# Altium footprint library AMP Footprints.PcbLib: 903 footprints (part 9 of 58)
Each footprint in its own frame and in the unit in brackets; x right, y up, seen from the top. Pads: shape width x height; smd on the part's side, far side on the other; paste and mask are expansions set on the pad; w line width, h text height; cw(c..) or ccw(c..) is an arc to the next point about the centre after c.
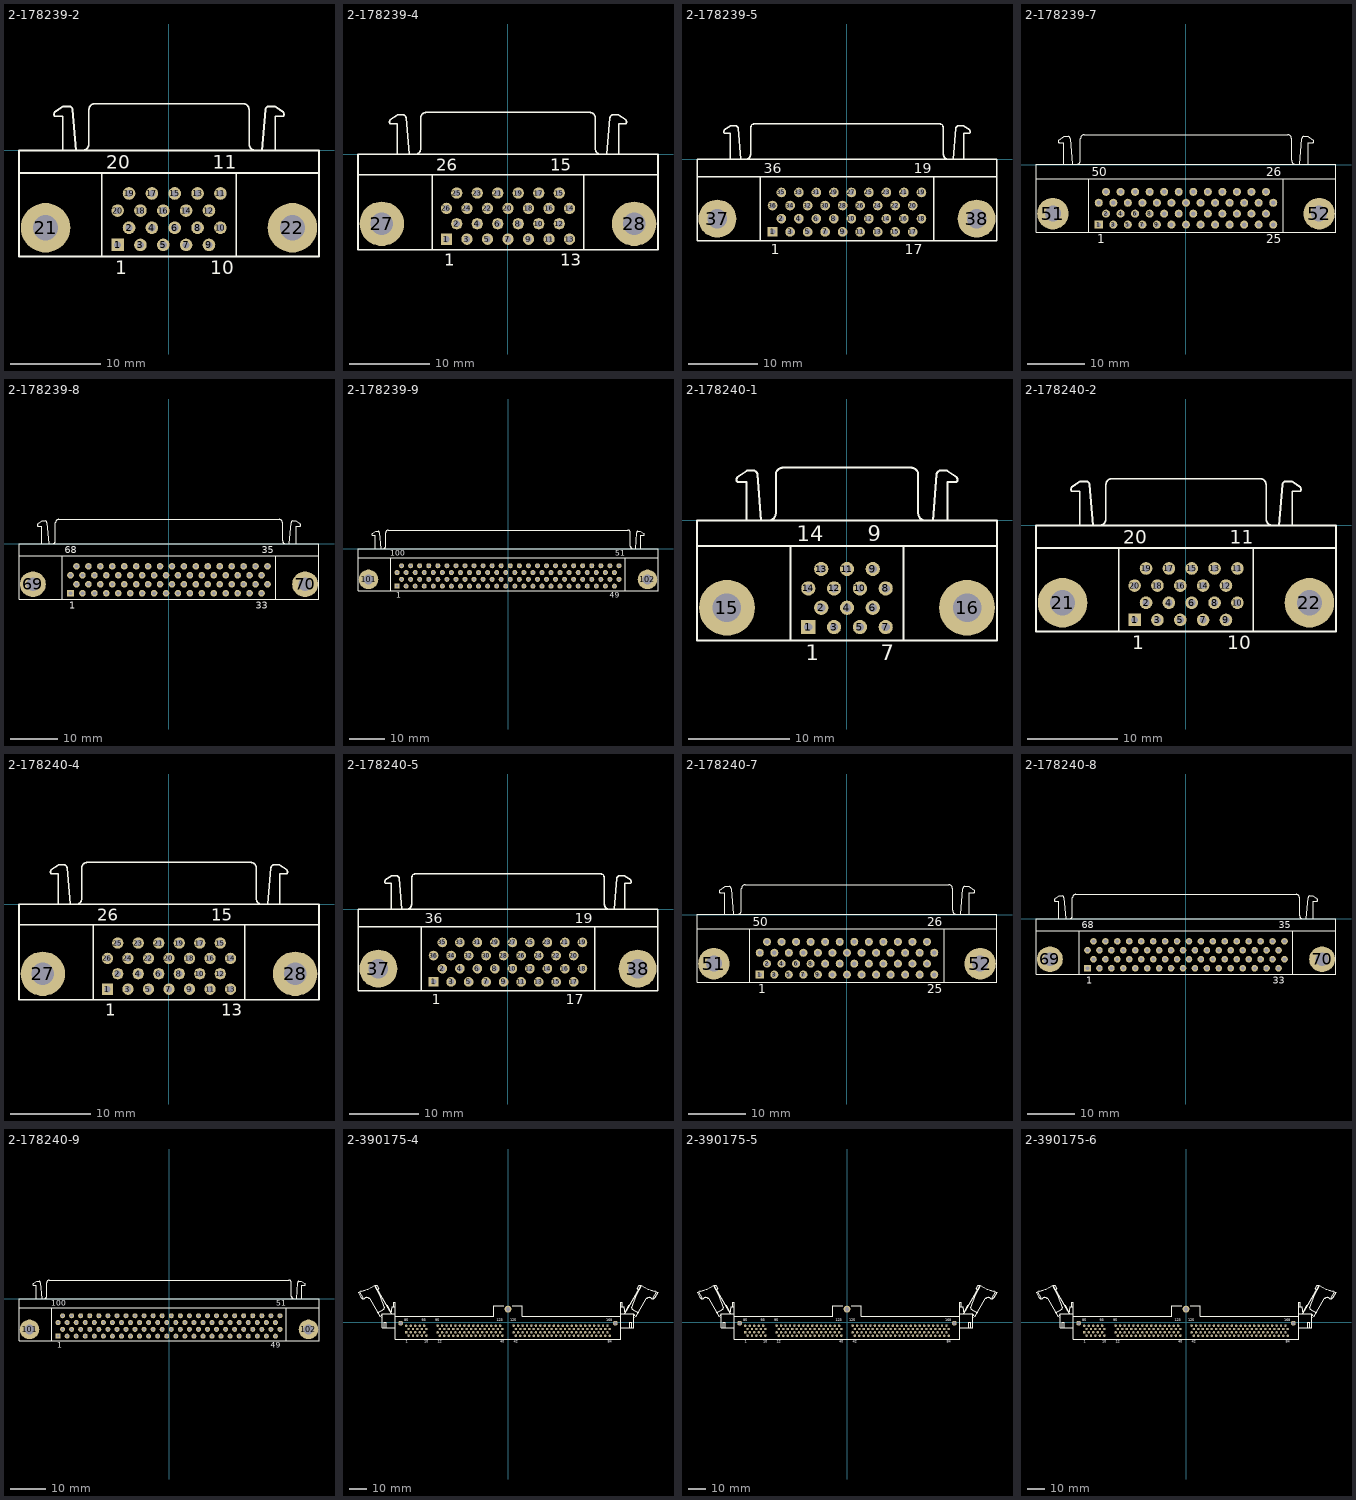
[diagram p8: the footprints below, top view; thin cyan lines are the x and y axes]

## 2-178239-2 [mm] "Connector; CHAMP Miniature Ribbon 050 Series II; 20 Position; Right Angle"
height 9.6
pads (22):
  rect 1.4x1.4 hole 0.8: 1(-5.715,-10.5)
  round 1.4 hole 0.8: 2(-4.445,-8.595) 3(-3.175,-10.5) 4(-1.905,-8.595) 5(-0.635,-10.5) 6(0.635,-8.595) 7(1.905,-10.5) 8(3.175,-8.595) 9(4.445,-10.5) 10(5.715,-8.595) 11(5.715,-4.785) 12(4.445,-6.69) 13(3.175,-4.785) 14(1.905,-6.69) 15(0.635,-4.785) 16(-0.635,-6.69) 17(-1.905,-4.785) 18(-3.175,-6.69) 19(-4.445,-4.785) 20(-5.715,-6.69)
  round 5.5 hole 2.8: 21(-13.725,-8.595) 22(13.725,-8.595)
Top Overlay:
  lines w0.2: -16.675,-2.5 16.675,-2.5 ; -12.69,4.27 -11.75,4.898 -11.028,4.898 cw(c-11.13,4.5) -10.72,4.5 ; -12.676,4.255 ccw(c-12.45,4.01) -12.7,3.79 -11.82,3.79 -11.82,0 ; -10.72,4.52 -10.35,0 ; -9.61,0.005 ccw(c-9.61,0.7) -8.915,0.7 -8.915,4.5 ; -8.91,4.505 cw(c-8.215,4.505) -8.215,5.2 8.215,5.2 cw(c8.215,4.505) 8.91,4.505 ; -7.475,-11.8 -7.475,-2.58 ; 7.475,-11.8 7.475,-2.5 ; 8.915,4.5 8.915,0.7 ccw(c9.61,0.7) 9.61,0.005 ; 10.35,0 10.72,4.52 ; 10.72,4.5 cw(c11.13,4.5) 11.028,4.898 11.75,4.898 12.69,4.27 ; 11.82,0 11.82,3.79 12.7,3.79 ccw(c12.45,4.01) 12.676,4.255 ; -16.675,-11.8 16.675,-11.8 16.675,0 -16.675,0 -16.675,-11.8
  text "11" at 4.84,-2.025 h1.5
  text "20" at -6.965,-2.025 h1.5
  text "10" at 4.59,-13.775 h1.5
  text "1" at -5.965,-13.775 h1.5

## 2-178239-4 [mm] "Connector; CHAMP Miniature Ribbon 050 Series II; 26 Position; Right Angle"
height 9.6
pads (28):
  rect 1.4x1.4 hole 0.8: 1(-7.62,-10.5)
  round 1.4 hole 0.8: 2(-6.35,-8.595) 3(-5.08,-10.5) 4(-3.81,-8.595) 5(-2.54,-10.5) 6(-1.27,-8.595) 7(0,-10.5) 8(1.27,-8.595) 9(2.54,-10.5) 10(3.81,-8.595) 11(5.08,-10.5) 12(6.35,-8.595) 13(7.62,-10.5) 14(7.62,-6.69) 15(6.35,-4.785) 16(5.08,-6.69) 17(3.81,-4.785) 18(2.54,-6.69) 19(1.27,-4.785) 20(0,-6.69) 21(-1.27,-4.785) 22(-2.54,-6.69) 23(-3.81,-4.785) 24(-5.08,-6.69) 25(-6.35,-4.785) 26(-7.62,-6.69)
  round 5.5 hole 2.8: 27(-15.63,-8.595) 28(15.63,-8.595)
Top Overlay:
  lines w0.2: -18.58,-2.5 18.58,-2.5 ; -14.595,4.27 -13.655,4.898 -12.933,4.898 cw(c-13.035,4.5) -12.625,4.5 ; -14.581,4.255 ccw(c-14.355,4.01) -14.605,3.79 -13.725,3.79 -13.725,0 ; -12.625,4.52 -12.255,0 ; -11.515,0.005 ccw(c-11.515,0.7) -10.82,0.7 -10.82,4.5 ; -10.815,4.505 cw(c-10.12,4.505) -10.12,5.2 10.12,5.2 cw(c10.12,4.505) 10.815,4.505 ; -9.38,-11.8 -9.38,-2.58 ; 9.38,-11.8 9.38,-2.5 ; 10.82,4.5 10.82,0.7 ccw(c11.515,0.7) 11.515,0.005 ; 12.255,0 12.625,4.52 ; 12.625,4.5 cw(c13.035,4.5) 12.933,4.898 13.655,4.898 14.595,4.27 ; 13.725,0 13.725,3.79 14.605,3.79 ccw(c14.355,4.01) 14.581,4.255 ; -18.58,-11.8 -18.58,0 18.58,0 18.58,-11.8 -18.58,-11.8
  text "13" at 6.495,-13.775 h1.5
  text "26" at -8.87,-2.025 h1.5
  text "15" at 5.225,-2.025 h1.5
  text "1" at -7.87,-13.775 h1.5

## 2-178239-5 [mm] "Connector; CHAMP Miniature Ribbon 050 Series II; 36 Position; Right Angle"
height 9.6
pads (38):
  rect 1.4x1.4 hole 0.8: 1(-10.795,-10.5)
  round 1.4 hole 0.8: 2(-9.525,-8.595) 3(-8.255,-10.5) 4(-6.985,-8.595) 5(-5.715,-10.5) 6(-4.445,-8.595) 7(-3.175,-10.5) 8(-1.905,-8.595) 9(-0.635,-10.5) 10(0.635,-8.595) 11(1.905,-10.5) 12(3.175,-8.595) 13(4.445,-10.5) 14(5.715,-8.595) 15(6.985,-10.5) 16(8.255,-8.595) 17(9.525,-10.5) 18(10.795,-8.595) 19(10.795,-4.785) 20(9.525,-6.69) 21(8.255,-4.785) 22(6.985,-6.69) 23(5.715,-4.785) 24(4.445,-6.69) 25(3.175,-4.785) 26(1.905,-6.69) 27(0.635,-4.785) 28(-0.635,-6.69) 29(-1.905,-4.785) 30(-3.175,-6.69) 31(-4.445,-4.785) 32(-5.715,-6.69) 33(-6.985,-4.785) 34(-8.255,-6.69) 35(-9.525,-4.785) 36(-10.795,-6.69)
  round 5.5 hole 2.8: 37(-18.805,-8.595) 38(18.805,-8.595)
Top Overlay:
  lines w0.2: -21.755,-2.5 21.755,-2.5 ; -17.77,4.27 -16.83,4.898 -16.108,4.898 cw(c-16.21,4.5) -15.8,4.5 ; -17.756,4.255 ccw(c-17.53,4.01) -17.78,3.79 -16.9,3.79 -16.9,0 ; -15.8,4.52 -15.43,0 ; -14.69,0.005 ccw(c-14.69,0.7) -13.995,0.7 -13.995,4.5 ; -13.99,4.505 cw(c-13.295,4.505) -13.295,5.2 13.295,5.2 cw(c13.295,4.505) 13.99,4.505 ; -12.555,-11.8 -12.555,-2.58 ; 12.555,-11.8 12.555,-2.5 ; 13.995,4.5 13.995,0.7 ccw(c14.69,0.7) 14.69,0.005 ; 15.43,0 15.8,4.52 ; 15.8,4.5 cw(c16.21,4.5) 16.108,4.898 16.83,4.898 17.77,4.27 ; 16.9,0 16.9,3.79 17.78,3.79 ccw(c17.53,4.01) 17.756,4.255 ; -21.755,-11.8 21.755,-11.8 21.755,0 -21.755,0 -21.755,-11.8
  text "19" at 9.67,-2.025 h1.5
  text "36" at -12.045,-2.025 h1.5
  text "17" at 8.4,-13.775 h1.5
  text "1" at -11.045,-13.775 h1.5

## 2-178239-7 [mm] "Connector; CHAMP Miniature Ribbon 050 Series II; 50 Position; Right Angle"
height 9.6
pads (52):
  rect 1.4x1.4 hole 0.8: 1(-15.24,-10.477)
  round 1.4 hole 0.8: 2(-13.97,-8.572) 3(-12.7,-10.477) 4(-11.43,-8.572) 5(-10.16,-10.477) 6(-8.89,-8.572) 7(-7.62,-10.477) 8(-6.35,-8.572) 9(-5.08,-10.477) 10(-3.81,-8.572) 11(-2.54,-10.477) 12(-1.27,-8.572) 13(0,-10.477) 14(1.27,-8.572) 15(2.54,-10.477) 16(3.81,-8.572) 17(5.08,-10.477) 18(6.35,-8.572) 19(7.62,-10.477) 20(8.89,-8.572) 21(10.16,-10.477) 22(11.43,-8.572) 23(12.7,-10.477) 24(13.97,-8.572) 25(15.24,-10.477) 26(15.24,-6.667) 27(13.97,-4.763) 28(12.7,-6.667) 29(11.43,-4.763) 30(10.16,-6.667) 31(8.89,-4.763) 32(7.62,-6.667) 33(6.35,-4.763) 34(5.08,-6.667) 35(3.81,-4.763) 36(2.54,-6.667) 37(1.27,-4.763) 38(0,-6.667) 39(-1.27,-4.763) 40(-2.54,-6.667) 41(-3.81,-4.763) 42(-5.08,-6.667) 43(-6.35,-4.763) 44(-7.62,-6.667) 45(-8.89,-4.763) 46(-10.16,-6.667) 47(-11.43,-4.763) 48(-12.7,-6.667) 49(-13.97,-4.763) 50(-15.24,-6.667)
  round 5.5 hole 2.8: 51(-23.25,-8.572) 52(23.25,-8.572)
Top Overlay:
  lines w0.2: -26.2,-2.478 26.2,-2.478 ; -22.215,4.292 -21.275,4.92 -20.553,4.92 cw(c-20.655,4.523) -20.245,4.523 ; -22.201,4.277 ccw(c-21.975,4.032) -22.225,3.812 -21.345,3.813 -21.345,0.022 ; -20.245,4.543 -19.875,0.022 ; -19.135,0.028 ccw(c-19.135,0.723) -18.44,0.723 -18.44,4.523 ; -18.435,4.527 cw(c-17.74,4.527) -17.74,5.222 17.74,5.222 cw(c17.74,4.527) 18.435,4.527 ; -17,-11.777 -17,-2.558 ; 17,-11.777 17,-2.478 ; 18.44,4.523 18.44,0.723 ccw(c19.135,0.723) 19.135,0.028 ; 19.875,0.022 20.245,4.543 ; 20.245,4.523 cw(c20.655,4.523) 20.553,4.92 21.275,4.92 22.215,4.292 ; 21.345,0.022 21.345,3.812 22.225,3.813 ccw(c21.975,4.032) 22.201,4.277 ; -26.2,-11.777 -26.2,0.022 26.2,0.022 26.2,-11.777 -26.2,-11.777
  text "1" at -15.49,-13.752 h1.5
  text "25" at 13.99,-13.752 h1.5
  text "50" at -16.49,-2.003 h1.5
  text "26" at 13.99,-2.003 h1.5

## 2-178239-8 [mm] "Connector; CHAMP Miniature Ribbon 050 Series II; 68 Position; Right Angle"
height 9.6
pads (70):
  rect 1.4x1.4 hole 0.8: 1(-20.955,-10.5)
  round 1.4 hole 0.8: 2(-19.685,-8.595) 3(-18.415,-10.5) 4(-17.145,-8.595) 5(-15.875,-10.5) 6(-14.605,-8.595) 7(-13.335,-10.5) 8(-12.065,-8.595) 9(-10.795,-10.5) 10(-9.525,-8.595) 11(-8.255,-10.5) 12(-6.985,-8.595) 13(-5.715,-10.5) 14(-4.445,-8.595) 15(-3.175,-10.5) 16(-1.905,-8.595) 17(-0.635,-10.5) 18(0.635,-8.595) 19(1.905,-10.5) 20(3.175,-8.595) 21(4.445,-10.5) 22(5.715,-8.595) 23(6.985,-10.5) 24(8.255,-8.595) 25(9.525,-10.5) 26(10.795,-8.595) 27(12.065,-10.5) 28(13.335,-8.595) 29(14.605,-10.5) 30(15.875,-8.595) 31(17.145,-10.5) 32(18.415,-8.595) 33(19.685,-10.5) 34(20.955,-8.595) 35(20.955,-4.785) 36(19.685,-6.69) 37(18.415,-4.785) 38(17.145,-6.69) 39(15.875,-4.785) 40(14.605,-6.69) 41(13.335,-4.785) 42(12.065,-6.69) 43(10.795,-4.785) 44(9.525,-6.69) 45(8.255,-4.785) 46(6.985,-6.69) 47(5.715,-4.785) 48(4.445,-6.69) 49(3.175,-4.785) 50(1.905,-6.69) 51(0.635,-4.785) 52(-0.635,-6.69) 53(-1.905,-4.785) 54(-3.175,-6.69) 55(-4.445,-4.785) 56(-5.715,-6.69) 57(-6.985,-4.785) 58(-8.255,-6.69) 59(-9.525,-4.785) 60(-10.795,-6.69) 61(-12.065,-4.785) 62(-13.335,-6.69) 63(-14.605,-4.785) 64(-15.875,-6.69) 65(-17.145,-4.785) 66(-18.415,-6.69) 67(-19.685,-4.785) 68(-20.955,-6.69)
  round 5.5 hole 2.8: 69(-28.965,-8.595) 70(28.965,-8.595)
Top Overlay:
  lines w0.2: -31.915,-2.5 31.915,-2.5 ; -27.93,4.27 -26.99,4.898 -26.268,4.898 cw(c-26.37,4.5) -25.96,4.5 ; -27.916,4.255 ccw(c-27.69,4.01) -27.94,3.79 -27.06,3.79 -27.06,0 ; -25.96,4.52 -25.59,0 ; -24.85,0.005 ccw(c-24.85,0.7) -24.155,0.7 -24.155,4.5 ; -24.15,4.505 cw(c-23.455,4.505) -23.455,5.2 23.455,5.2 cw(c23.455,4.505) 24.15,4.505 ; -22.715,-11.8 -22.715,-2.58 ; 22.715,-11.8 22.715,-2.5 ; 24.155,4.5 24.155,0.7 ccw(c24.85,0.7) 24.85,0.005 ; 25.59,0 25.96,4.52 ; 25.96,4.5 cw(c26.37,4.5) 26.268,4.898 26.99,4.898 27.93,4.27 ; 27.06,0 27.06,3.79 27.94,3.79 ccw(c27.69,4.01) 27.916,4.255 ; -31.915,-11.8 -31.915,0 31.915,0 31.915,-11.8 -31.915,-11.8
  text "35" at 19.705,-2.025 h1.5
  text "68" at -22.205,-2.025 h1.5
  text "33" at 18.435,-13.775 h1.5
  text "1" at -21.205,-13.775 h1.5

## 2-178239-9 [mm] "Connector; CHAMP Miniature Ribbon 050 Series II; 100 Position; Right Angle"
height 9.6
pads (102):
  rect 1.4x1.4 hole 0.8: 1(-31.115,-10.5)
  round 1.4 hole 0.8: 2(-29.845,-8.595) 3(-28.575,-10.5) 4(-27.305,-8.595) 5(-26.035,-10.5) 6(-24.765,-8.595) 7(-23.495,-10.5) 8(-22.225,-8.595) 9(-20.955,-10.5) 10(-19.685,-8.595) 11(-18.415,-10.5) 12(-17.145,-8.595) 13(-15.875,-10.5) 14(-14.605,-8.595) 15(-13.335,-10.5) 16(-12.065,-8.595) 17(-10.795,-10.5) 18(-9.525,-8.595) 19(-8.255,-10.5) 20(-6.985,-8.595) 21(-5.715,-10.5) 22(-4.445,-8.595) 23(-3.175,-10.5) 24(-1.905,-8.595) 25(-0.635,-10.5) 26(0.635,-8.595) 27(1.905,-10.5) 28(3.175,-8.595) 29(4.445,-10.5) 30(5.715,-8.595) 31(6.985,-10.5) 32(8.255,-8.595) 33(9.525,-10.5) 34(10.795,-8.595) 35(12.065,-10.5) 36(13.335,-8.595) 37(14.605,-10.5) 38(15.875,-8.595) 39(17.145,-10.5) 40(18.415,-8.595) 41(19.685,-10.5) 42(20.955,-8.595) 43(22.225,-10.5) 44(23.495,-8.595) 45(24.765,-10.5) 46(26.035,-8.595) 47(27.305,-10.5) 48(28.575,-8.595) 49(29.845,-10.5) 50(31.115,-8.595) 51(31.115,-4.785) 52(29.845,-6.69) 53(28.575,-4.785) 54(27.305,-6.69) 55(26.035,-4.785) 56(24.765,-6.69) 57(23.495,-4.785) 58(22.225,-6.69) 59(20.955,-4.785) 60(19.685,-6.69) 61(18.415,-4.785) 62(17.145,-6.69) 63(15.875,-4.785) 64(14.605,-6.69) 65(13.335,-4.785) 66(12.065,-6.69) 67(10.795,-4.785) 68(9.525,-6.69) 69(8.255,-4.785) 70(6.985,-6.69) 71(5.715,-4.785) 72(4.445,-6.69) 73(3.175,-4.785) 74(1.905,-6.69) 75(0.635,-4.785) 76(-0.635,-6.69) 77(-1.905,-4.785) 78(-3.175,-6.69) 79(-4.445,-4.785) 80(-5.715,-6.69) 81(-6.985,-4.785) 82(-8.255,-6.69) 83(-9.525,-4.785) 84(-10.795,-6.69) 85(-12.065,-4.785) 86(-13.335,-6.69) 87(-14.605,-4.785) 88(-15.875,-6.69) 89(-17.145,-4.785) 90(-18.415,-6.69) 91(-19.685,-4.785) 92(-20.955,-6.69) 93(-22.225,-4.785) 94(-23.495,-6.69) 95(-24.765,-4.785) 96(-26.035,-6.69) 97(-27.305,-4.785) 98(-28.575,-6.69) 99(-29.845,-4.785) 100(-31.115,-6.69)
  round 5.5 hole 2.8: 101(-39.125,-8.595) 102(39.125,-8.595)
Top Overlay:
  lines w0.2: -42.075,-2.5 42.075,-2.5 ; -38.09,4.27 -37.15,4.898 -36.428,4.898 cw(c-36.53,4.5) -36.12,4.5 ; -38.076,4.255 ccw(c-37.85,4.01) -38.1,3.79 -37.22,3.79 -37.22,0 ; -36.12,4.52 -35.75,0 ; -35.01,0.005 ccw(c-35.01,0.7) -34.315,0.7 -34.315,4.5 ; -34.31,4.505 cw(c-33.615,4.505) -33.615,5.2 33.615,5.2 ; -32.875,-11.8 -32.875,-2.58 ; 32.875,-11.8 32.875,-2.5 ; 33.63,5.2 cw(c33.63,4.505) 34.325,4.505 ; 34.33,4.5 34.33,0.7 ccw(c35.025,0.7) 35.025,0.005 ; 35.765,0 36.135,4.52 ; 36.135,4.5 cw(c36.545,4.5) 36.443,4.898 37.165,4.898 38.105,4.27 ; 37.235,0 37.235,3.79 38.115,3.79 ccw(c37.865,4.01) 38.091,4.255 ; -42.075,-11.8 42.075,-11.8 42.075,0 -42.075,0 -42.075,-11.8
  text "51" at 30.115,-2.025 h1.5
  text "100" at -32.99,-2.025 h1.5
  text "49" at 28.595,-13.775 h1.5
  text "1" at -31.365,-13.775 h1.5

## 2-178240-1 [mm] "Connector; CHAMP Miniature Ribbon 050 Series II; 14 Position; Right Angle"
height 9.6
pads (16):
  rect 1.4x1.4 hole 0.8: 1(-3.81,-10.5)
  round 1.4 hole 0.8: 2(-2.54,-8.595) 3(-1.27,-10.5) 4(0,-8.595) 5(1.27,-10.5) 6(2.54,-8.595) 7(3.81,-10.5) 8(3.81,-6.69) 9(2.54,-4.785) 10(1.27,-6.69) 11(0,-4.785) 12(-1.27,-6.69) 13(-2.54,-4.785) 14(-3.81,-6.69)
  round 5.5 hole 2.8: 15(-11.82,-8.595) 16(11.82,-8.595)
Top Overlay:
  lines w0.2: -14.77,-2.5 14.77,-2.5 ; -10.785,4.27 -9.845,4.898 -9.123,4.898 cw(c-9.225,4.5) -8.815,4.5 ; -10.771,4.255 ccw(c-10.545,4.01) -10.795,3.79 -9.915,3.79 -9.915,0 ; -8.815,4.52 -8.445,0 ; -7.705,0.005 ccw(c-7.705,0.7) -7.01,0.7 -7.01,4.5 ; -7.005,4.505 cw(c-6.31,4.505) -6.31,5.2 6.31,5.2 cw(c6.31,4.505) 7.005,4.505 ; -5.57,-11.8 -5.57,-2.58 ; 5.57,-11.8 5.57,-2.5 ; 7.01,4.5 7.01,0.7 ccw(c7.705,0.7) 7.705,0.005 ; 8.445,0 8.815,4.52 ; 8.815,4.5 cw(c9.225,4.5) 9.123,4.898 9.845,4.898 10.785,4.27 ; 9.915,0 9.915,3.79 10.795,3.79 ccw(c10.545,4.01) 10.771,4.255 ; -14.77,-11.8 14.77,-11.8 14.77,0 -14.77,0 -14.77,-11.8
  text "9" at 2.04,-2.025 h1.5
  text "14" at -4.935,-2.025 h1.5
  text "1" at -4.06,-13.775 h1.5
  text "7" at 3.31,-13.775 h1.5

## 2-178240-2 [mm] "Connector; CHAMP Miniature Ribbon 050 Series II; 20 Position; Right Angle"
height 9.6
pads (22):
  rect 1.4x1.4 hole 0.8: 1(-5.715,-10.5)
  round 1.4 hole 0.8: 2(-4.445,-8.595) 3(-3.175,-10.5) 4(-1.905,-8.595) 5(-0.635,-10.5) 6(0.635,-8.595) 7(1.905,-10.5) 8(3.175,-8.595) 9(4.445,-10.5) 10(5.715,-8.595) 11(5.715,-4.785) 12(4.445,-6.69) 13(3.175,-4.785) 14(1.905,-6.69) 15(0.635,-4.785) 16(-0.635,-6.69) 17(-1.905,-4.785) 18(-3.175,-6.69) 19(-4.445,-4.785) 20(-5.715,-6.69)
  round 5.5 hole 2.8: 21(-13.725,-8.595) 22(13.725,-8.595)
Top Overlay:
  lines w0.2: -16.675,-2.5 16.675,-2.5 ; -12.69,4.27 -11.75,4.898 -11.028,4.898 cw(c-11.13,4.5) -10.72,4.5 ; -12.676,4.255 ccw(c-12.45,4.01) -12.7,3.79 -11.82,3.79 -11.82,0 ; -10.72,4.52 -10.35,0 ; -9.61,0.005 ccw(c-9.61,0.7) -8.915,0.7 -8.915,4.5 ; -8.91,4.505 cw(c-8.215,4.505) -8.215,5.2 8.215,5.2 cw(c8.215,4.505) 8.91,4.505 ; -7.475,-11.8 -7.475,-2.58 ; 7.475,-11.8 7.475,-2.5 ; 8.915,4.5 8.915,0.7 ccw(c9.61,0.7) 9.61,0.005 ; 10.35,0 10.72,4.52 ; 10.72,4.5 cw(c11.13,4.5) 11.028,4.898 11.75,4.898 12.69,4.27 ; 11.82,0 11.82,3.79 12.7,3.79 ccw(c12.45,4.01) 12.676,4.255 ; -16.675,-11.8 16.675,-11.8 16.675,0 -16.675,0 -16.675,-11.8
  text "11" at 4.84,-2.025 h1.5
  text "20" at -6.965,-2.025 h1.5
  text "10" at 4.59,-13.775 h1.5
  text "1" at -5.965,-13.775 h1.5

## 2-178240-4 [mm] "Connector; CHAMP Miniature Ribbon 050 Series II; 26 Position; Right Angle"
height 9.6
pads (28):
  rect 1.4x1.4 hole 0.8: 1(-7.62,-10.5)
  round 1.4 hole 0.8: 2(-6.35,-8.595) 3(-5.08,-10.5) 4(-3.81,-8.595) 5(-2.54,-10.5) 6(-1.27,-8.595) 7(0,-10.5) 8(1.27,-8.595) 9(2.54,-10.5) 10(3.81,-8.595) 11(5.08,-10.5) 12(6.35,-8.595) 13(7.62,-10.5) 14(7.62,-6.69) 15(6.35,-4.785) 16(5.08,-6.69) 17(3.81,-4.785) 18(2.54,-6.69) 19(1.27,-4.785) 20(0,-6.69) 21(-1.27,-4.785) 22(-2.54,-6.69) 23(-3.81,-4.785) 24(-5.08,-6.69) 25(-6.35,-4.785) 26(-7.62,-6.69)
  round 5.5 hole 2.8: 27(-15.63,-8.595) 28(15.63,-8.595)
Top Overlay:
  lines w0.2: -18.58,-2.5 18.58,-2.5 ; -14.595,4.27 -13.655,4.898 -12.933,4.898 cw(c-13.035,4.5) -12.625,4.5 ; -14.581,4.255 ccw(c-14.355,4.01) -14.605,3.79 -13.725,3.79 -13.725,0 ; -12.625,4.52 -12.255,0 ; -11.515,0.005 ccw(c-11.515,0.7) -10.82,0.7 -10.82,4.5 ; -10.815,4.505 cw(c-10.12,4.505) -10.12,5.2 10.12,5.2 cw(c10.12,4.505) 10.815,4.505 ; -9.38,-11.8 -9.38,-2.58 ; 9.38,-11.8 9.38,-2.5 ; 10.82,4.5 10.82,0.7 ccw(c11.515,0.7) 11.515,0.005 ; 12.255,0 12.625,4.52 ; 12.625,4.5 cw(c13.035,4.5) 12.933,4.898 13.655,4.898 14.595,4.27 ; 13.725,0 13.725,3.79 14.605,3.79 ccw(c14.355,4.01) 14.581,4.255 ; -18.58,-11.8 -18.58,0 18.58,0 18.58,-11.8 -18.58,-11.8
  text "13" at 6.495,-13.775 h1.5
  text "26" at -8.87,-2.025 h1.5
  text "15" at 5.225,-2.025 h1.5
  text "1" at -7.87,-13.775 h1.5

## 2-178240-5 [mm] "Connector; CHAMP Miniature Ribbon 050 Series II; 36 Position; Right Angle"
height 9.6
pads (38):
  rect 1.4x1.4 hole 0.8: 1(-10.795,-10.5)
  round 1.4 hole 0.8: 2(-9.525,-8.595) 3(-8.255,-10.5) 4(-6.985,-8.595) 5(-5.715,-10.5) 6(-4.445,-8.595) 7(-3.175,-10.5) 8(-1.905,-8.595) 9(-0.635,-10.5) 10(0.635,-8.595) 11(1.905,-10.5) 12(3.175,-8.595) 13(4.445,-10.5) 14(5.715,-8.595) 15(6.985,-10.5) 16(8.255,-8.595) 17(9.525,-10.5) 18(10.795,-8.595) 19(10.795,-4.785) 20(9.525,-6.69) 21(8.255,-4.785) 22(6.985,-6.69) 23(5.715,-4.785) 24(4.445,-6.69) 25(3.175,-4.785) 26(1.905,-6.69) 27(0.635,-4.785) 28(-0.635,-6.69) 29(-1.905,-4.785) 30(-3.175,-6.69) 31(-4.445,-4.785) 32(-5.715,-6.69) 33(-6.985,-4.785) 34(-8.255,-6.69) 35(-9.525,-4.785) 36(-10.795,-6.69)
  round 5.5 hole 2.8: 37(-18.805,-8.595) 38(18.805,-8.595)
Top Overlay:
  lines w0.2: -21.755,-2.5 21.755,-2.5 ; -17.77,4.27 -16.83,4.898 -16.108,4.898 cw(c-16.21,4.5) -15.8,4.5 ; -17.756,4.255 ccw(c-17.53,4.01) -17.78,3.79 -16.9,3.79 -16.9,0 ; -15.8,4.52 -15.43,0 ; -14.69,0.005 ccw(c-14.69,0.7) -13.995,0.7 -13.995,4.5 ; -13.99,4.505 cw(c-13.295,4.505) -13.295,5.2 13.295,5.2 cw(c13.295,4.505) 13.99,4.505 ; -12.555,-11.8 -12.555,-2.58 ; 12.555,-11.8 12.555,-2.5 ; 13.995,4.5 13.995,0.7 ccw(c14.69,0.7) 14.69,0.005 ; 15.43,0 15.8,4.52 ; 15.8,4.5 cw(c16.21,4.5) 16.108,4.898 16.83,4.898 17.77,4.27 ; 16.9,0 16.9,3.79 17.78,3.79 ccw(c17.53,4.01) 17.756,4.255 ; -21.755,-11.8 21.755,-11.8 21.755,0 -21.755,0 -21.755,-11.8
  text "19" at 9.67,-2.025 h1.5
  text "36" at -12.045,-2.025 h1.5
  text "17" at 8.4,-13.775 h1.5
  text "1" at -11.045,-13.775 h1.5

## 2-178240-7 [mm] "Connector; CHAMP Miniature Ribbon 050 Series II; 50 Position; Right Angle"
height 9.6
pads (52):
  rect 1.4x1.4 hole 0.8: 1(-15.24,-10.477)
  round 1.4 hole 0.8: 2(-13.97,-8.572) 3(-12.7,-10.477) 4(-11.43,-8.572) 5(-10.16,-10.477) 6(-8.89,-8.572) 7(-7.62,-10.477) 8(-6.35,-8.572) 9(-5.08,-10.477) 10(-3.81,-8.572) 11(-2.54,-10.477) 12(-1.27,-8.572) 13(0,-10.477) 14(1.27,-8.572) 15(2.54,-10.477) 16(3.81,-8.572) 17(5.08,-10.477) 18(6.35,-8.572) 19(7.62,-10.477) 20(8.89,-8.572) 21(10.16,-10.477) 22(11.43,-8.572) 23(12.7,-10.477) 24(13.97,-8.572) 25(15.24,-10.477) 26(15.24,-6.667) 27(13.97,-4.763) 28(12.7,-6.667) 29(11.43,-4.763) 30(10.16,-6.667) 31(8.89,-4.763) 32(7.62,-6.667) 33(6.35,-4.763) 34(5.08,-6.667) 35(3.81,-4.763) 36(2.54,-6.667) 37(1.27,-4.763) 38(0,-6.667) 39(-1.27,-4.763) 40(-2.54,-6.667) 41(-3.81,-4.763) 42(-5.08,-6.667) 43(-6.35,-4.763) 44(-7.62,-6.667) 45(-8.89,-4.763) 46(-10.16,-6.667) 47(-11.43,-4.763) 48(-12.7,-6.667) 49(-13.97,-4.763) 50(-15.24,-6.667)
  round 5.5 hole 2.8: 51(-23.25,-8.572) 52(23.25,-8.572)
Top Overlay:
  lines w0.2: -26.2,-2.478 26.2,-2.478 ; -22.215,4.292 -21.275,4.92 -20.553,4.92 cw(c-20.655,4.523) -20.245,4.523 ; -22.201,4.277 ccw(c-21.975,4.032) -22.225,3.812 -21.345,3.813 -21.345,0.022 ; -20.245,4.543 -19.875,0.022 ; -19.135,0.028 ccw(c-19.135,0.723) -18.44,0.723 -18.44,4.523 ; -18.435,4.527 cw(c-17.74,4.527) -17.74,5.222 17.74,5.222 cw(c17.74,4.527) 18.435,4.527 ; -17,-11.777 -17,-2.558 ; 17,-11.777 17,-2.478 ; 18.44,4.523 18.44,0.723 ccw(c19.135,0.723) 19.135,0.028 ; 19.875,0.022 20.245,4.543 ; 20.245,4.523 cw(c20.655,4.523) 20.553,4.92 21.275,4.92 22.215,4.292 ; 21.345,0.022 21.345,3.812 22.225,3.813 ccw(c21.975,4.032) 22.201,4.277 ; -26.2,-11.777 -26.2,0.022 26.2,0.022 26.2,-11.777 -26.2,-11.777
  text "1" at -15.49,-13.752 h1.5
  text "25" at 13.99,-13.752 h1.5
  text "50" at -16.49,-2.003 h1.5
  text "26" at 13.99,-2.003 h1.5

## 2-178240-8 [mm] "Connector; CHAMP Miniature Ribbon 050 Series II; 68 Position; Right Angle"
height 9.6
pads (70):
  rect 1.4x1.4 hole 0.8: 1(-20.955,-10.5)
  round 1.4 hole 0.8: 2(-19.685,-8.595) 3(-18.415,-10.5) 4(-17.145,-8.595) 5(-15.875,-10.5) 6(-14.605,-8.595) 7(-13.335,-10.5) 8(-12.065,-8.595) 9(-10.795,-10.5) 10(-9.525,-8.595) 11(-8.255,-10.5) 12(-6.985,-8.595) 13(-5.715,-10.5) 14(-4.445,-8.595) 15(-3.175,-10.5) 16(-1.905,-8.595) 17(-0.635,-10.5) 18(0.635,-8.595) 19(1.905,-10.5) 20(3.175,-8.595) 21(4.445,-10.5) 22(5.715,-8.595) 23(6.985,-10.5) 24(8.255,-8.595) 25(9.525,-10.5) 26(10.795,-8.595) 27(12.065,-10.5) 28(13.335,-8.595) 29(14.605,-10.5) 30(15.875,-8.595) 31(17.145,-10.5) 32(18.415,-8.595) 33(19.685,-10.5) 34(20.955,-8.595) 35(20.955,-4.785) 36(19.685,-6.69) 37(18.415,-4.785) 38(17.145,-6.69) 39(15.875,-4.785) 40(14.605,-6.69) 41(13.335,-4.785) 42(12.065,-6.69) 43(10.795,-4.785) 44(9.525,-6.69) 45(8.255,-4.785) 46(6.985,-6.69) 47(5.715,-4.785) 48(4.445,-6.69) 49(3.175,-4.785) 50(1.905,-6.69) 51(0.635,-4.785) 52(-0.635,-6.69) 53(-1.905,-4.785) 54(-3.175,-6.69) 55(-4.445,-4.785) 56(-5.715,-6.69) 57(-6.985,-4.785) 58(-8.255,-6.69) 59(-9.525,-4.785) 60(-10.795,-6.69) 61(-12.065,-4.785) 62(-13.335,-6.69) 63(-14.605,-4.785) 64(-15.875,-6.69) 65(-17.145,-4.785) 66(-18.415,-6.69) 67(-19.685,-4.785) 68(-20.955,-6.69)
  round 5.5 hole 2.8: 69(-28.965,-8.595) 70(28.965,-8.595)
Top Overlay:
  lines w0.2: -31.915,-2.5 31.915,-2.5 ; -27.93,4.27 -26.99,4.898 -26.268,4.898 cw(c-26.37,4.5) -25.96,4.5 ; -27.916,4.255 ccw(c-27.69,4.01) -27.94,3.79 -27.06,3.79 -27.06,0 ; -25.96,4.52 -25.59,0 ; -24.85,0.005 ccw(c-24.85,0.7) -24.155,0.7 -24.155,4.5 ; -24.15,4.505 cw(c-23.455,4.505) -23.455,5.2 23.455,5.2 cw(c23.455,4.505) 24.15,4.505 ; -22.715,-11.8 -22.715,-2.58 ; 22.715,-11.8 22.715,-2.5 ; 24.155,4.5 24.155,0.7 ccw(c24.85,0.7) 24.85,0.005 ; 25.59,0 25.96,4.52 ; 25.96,4.5 cw(c26.37,4.5) 26.268,4.898 26.99,4.898 27.93,4.27 ; 27.06,0 27.06,3.79 27.94,3.79 ccw(c27.69,4.01) 27.916,4.255 ; -31.915,-11.8 -31.915,0 31.915,0 31.915,-11.8 -31.915,-11.8
  text "35" at 19.705,-2.025 h1.5
  text "68" at -22.205,-2.025 h1.5
  text "33" at 18.435,-13.775 h1.5
  text "1" at -21.205,-13.775 h1.5

## 2-178240-9 [mm] "Connector; CHAMP Miniature Ribbon 050 Series II; 100 Position; Right Angle"
height 9.6
pads (102):
  rect 1.4x1.4 hole 0.8: 1(-31.115,-10.5)
  round 1.4 hole 0.8: 2(-29.845,-8.595) 3(-28.575,-10.5) 4(-27.305,-8.595) 5(-26.035,-10.5) 6(-24.765,-8.595) 7(-23.495,-10.5) 8(-22.225,-8.595) 9(-20.955,-10.5) 10(-19.685,-8.595) 11(-18.415,-10.5) 12(-17.145,-8.595) 13(-15.875,-10.5) 14(-14.605,-8.595) 15(-13.335,-10.5) 16(-12.065,-8.595) 17(-10.795,-10.5) 18(-9.525,-8.595) 19(-8.255,-10.5) 20(-6.985,-8.595) 21(-5.715,-10.5) 22(-4.445,-8.595) 23(-3.175,-10.5) 24(-1.905,-8.595) 25(-0.635,-10.5) 26(0.635,-8.595) 27(1.905,-10.5) 28(3.175,-8.595) 29(4.445,-10.5) 30(5.715,-8.595) 31(6.985,-10.5) 32(8.255,-8.595) 33(9.525,-10.5) 34(10.795,-8.595) 35(12.065,-10.5) 36(13.335,-8.595) 37(14.605,-10.5) 38(15.875,-8.595) 39(17.145,-10.5) 40(18.415,-8.595) 41(19.685,-10.5) 42(20.955,-8.595) 43(22.225,-10.5) 44(23.495,-8.595) 45(24.765,-10.5) 46(26.035,-8.595) 47(27.305,-10.5) 48(28.575,-8.595) 49(29.845,-10.5) 50(31.115,-8.595) 51(31.115,-4.785) 52(29.845,-6.69) 53(28.575,-4.785) 54(27.305,-6.69) 55(26.035,-4.785) 56(24.765,-6.69) 57(23.495,-4.785) 58(22.225,-6.69) 59(20.955,-4.785) 60(19.685,-6.69) 61(18.415,-4.785) 62(17.145,-6.69) 63(15.875,-4.785) 64(14.605,-6.69) 65(13.335,-4.785) 66(12.065,-6.69) 67(10.795,-4.785) 68(9.525,-6.69) 69(8.255,-4.785) 70(6.985,-6.69) 71(5.715,-4.785) 72(4.445,-6.69) 73(3.175,-4.785) 74(1.905,-6.69) 75(0.635,-4.785) 76(-0.635,-6.69) 77(-1.905,-4.785) 78(-3.175,-6.69) 79(-4.445,-4.785) 80(-5.715,-6.69) 81(-6.985,-4.785) 82(-8.255,-6.69) 83(-9.525,-4.785) 84(-10.795,-6.69) 85(-12.065,-4.785) 86(-13.335,-6.69) 87(-14.605,-4.785) 88(-15.875,-6.69) 89(-17.145,-4.785) 90(-18.415,-6.69) 91(-19.685,-4.785) 92(-20.955,-6.69) 93(-22.225,-4.785) 94(-23.495,-6.69) 95(-24.765,-4.785) 96(-26.035,-6.69) 97(-27.305,-4.785) 98(-28.575,-6.69) 99(-29.845,-4.785) 100(-31.115,-6.69)
  round 5.5 hole 2.8: 101(-39.125,-8.595) 102(39.125,-8.595)
Top Overlay:
  lines w0.2: -42.075,-2.5 42.075,-2.5 ; -38.09,4.27 -37.15,4.898 -36.428,4.898 cw(c-36.53,4.5) -36.12,4.5 ; -38.076,4.255 ccw(c-37.85,4.01) -38.1,3.79 -37.22,3.79 -37.22,0 ; -36.12,4.52 -35.75,0 ; -35.01,0.005 ccw(c-35.01,0.7) -34.315,0.7 -34.315,4.5 ; -34.31,4.505 cw(c-33.615,4.505) -33.615,5.2 33.615,5.2 ; -32.875,-11.8 -32.875,-2.58 ; 32.875,-11.8 32.875,-2.5 ; 33.63,5.2 cw(c33.63,4.505) 34.325,4.505 ; 34.33,4.5 34.33,0.7 ccw(c35.025,0.7) 35.025,0.005 ; 35.765,0 36.135,4.52 ; 36.135,4.5 cw(c36.545,4.5) 36.443,4.898 37.165,4.898 38.105,4.27 ; 37.235,0 37.235,3.79 38.115,3.79 ccw(c37.865,4.01) 38.091,4.255 ; -42.075,-11.8 42.075,-11.8 42.075,0 -42.075,0 -42.075,-11.8
  text "51" at 30.115,-2.025 h1.5
  text "100" at -32.99,-2.025 h1.5
  text "49" at 28.595,-13.775 h1.5
  text "1" at -31.365,-13.775 h1.5

## 2-390175-4 [mm] "Connector; DIMM II; 168 Position; Right Angle"
height 10.54
pads (171):
  rect 1.4x1.4 hole 0.81: 1(-57.785,-5.645)
  round 1.4 hole 0.81: 2(-56.515,-7.545) 3(-55.245,-5.645) 4(-53.975,-7.545) 5(-52.705,-5.645) 6(-51.435,-7.545) 7(-50.165,-5.645) 8(-48.895,-7.545) 9(-47.625,-5.645) 10(-46.355,-7.545) 11(-40.005,-5.645) 12(-38.735,-7.545) 13(-37.465,-5.645) 14(-36.195,-7.545) 15(-34.925,-5.645) 16(-33.655,-7.545) 17(-32.385,-5.645) 18(-31.115,-7.545) 19(-29.845,-5.645) 20(-28.575,-7.545) 21(-27.305,-5.645) 22(-26.035,-7.545) 23(-24.765,-5.645) 24(-23.495,-7.545) 25(-22.225,-5.645) 26(-20.955,-7.545) 27(-19.685,-5.645) 28(-18.415,-7.545) 29(-17.145,-5.645) 30(-15.875,-7.545) 31(-14.605,-5.645) 32(-13.335,-7.545) 33(-12.065,-5.645) 34(-10.795,-7.545) 35(-9.525,-5.645) 36(-8.255,-7.545) 37(-6.985,-5.645) 38(-5.715,-7.545) 39(-4.445,-5.645) 40(-3.175,-7.545) 41(3.175,-5.645) 42(4.445,-7.545) 43(5.715,-5.645) 44(6.985,-7.545) 45(8.255,-5.645) 46(9.525,-7.545) 47(10.795,-5.645) 48(12.065,-7.545) 49(13.335,-5.645) 50(14.605,-7.545) 51(15.875,-5.645) 52(17.145,-7.545) 53(18.415,-5.645) 54(19.685,-7.545) 55(20.955,-5.645) 56(22.225,-7.545) 57(23.495,-5.645) 58(24.765,-7.545) 59(26.035,-5.645) 60(27.305,-7.545) 61(28.575,-5.645) 62(29.845,-7.545) 63(31.115,-5.645) 64(32.385,-7.545) 65(33.655,-5.645) 66(34.925,-7.545) 67(36.195,-5.645) 68(37.465,-7.545) 69(38.735,-5.645) 70(40.005,-7.545) 71(41.275,-5.645) 72(42.545,-7.545) 73(43.815,-5.645) 74(45.085,-7.545) 75(46.355,-5.645) 76(47.625,-7.545) 77(48.895,-5.645) 78(50.165,-7.545) 79(51.435,-5.645) 80(52.705,-7.545) 81(53.975,-5.645) 82(55.245,-7.545) 83(56.515,-5.645) 84(57.785,-7.545) 85(-57.785,-1.845) 86(-56.515,-3.745) 87(-55.245,-1.845) 88(-53.975,-3.745) 89(-52.705,-1.845) 90(-51.435,-3.745) 91(-50.165,-1.845) 92(-48.895,-3.745) 93(-47.625,-1.845) 94(-46.355,-3.745) 95(-40.005,-1.845) 96(-38.735,-3.745) 97(-37.465,-1.845) 98(-36.195,-3.745) 99(-34.925,-1.845) 100(-33.655,-3.745) 101(-32.385,-1.845) 102(-31.115,-3.745) 103(-29.845,-1.845) 104(-28.575,-3.745) 105(-27.305,-1.845) 106(-26.035,-3.745) 107(-24.765,-1.845) 108(-23.495,-3.745) 109(-22.225,-1.845) 110(-20.955,-3.745) 111(-19.685,-1.845) 112(-18.415,-3.745) 113(-17.145,-1.845) 114(-15.875,-3.745) 115(-14.605,-1.845) 116(-13.335,-3.745) 117(-12.065,-1.845) 118(-10.795,-3.745) 119(-9.525,-1.845) 120(-8.255,-3.745) 121(-6.985,-1.845) 122(-5.715,-3.745) 123(-4.445,-1.845) 124(-3.175,-3.745) 125(3.175,-1.845) 126(4.445,-3.745) 127(5.715,-1.845) 128(6.985,-3.745) 129(8.255,-1.845) 130(9.525,-3.745) 131(10.795,-1.845) 132(12.065,-3.745) 133(13.335,-1.845) 134(14.605,-3.745) 135(15.875,-1.845) 136(17.145,-3.745) 137(18.415,-1.845) 138(19.685,-3.745) 139(20.955,-1.845) 140(22.225,-3.745) 141(23.495,-1.845) 142(24.765,-3.745) 143(26.035,-1.845) 144(27.305,-3.745) 145(28.575,-1.845) 146(29.845,-3.745) 147(31.115,-1.845) 148(32.385,-3.745) 149(33.655,-1.845) 150(34.925,-3.745) 151(36.195,-1.845) 152(37.465,-3.745) 153(38.735,-1.845) 154(40.005,-3.745) 155(41.275,-1.845) 156(42.545,-3.745) 157(43.815,-1.845) 158(45.085,-3.745) 159(46.355,-1.845) 160(47.625,-3.745) 161(48.895,-1.845) 162(50.165,-3.745) 163(51.435,-1.845) 164(52.705,-3.745) 165(53.975,-1.845) 166(55.245,-3.745) 167(56.515,-1.845) 168(57.785,-3.745)
  round 2.778 hole 1.778: 169(60.96,-0.455) 171(-60.96,-0.455)
  round 3.94 hole 2.44: 170(0,7.545)
Top Overlay:
  lines w0.25: -84.364,17.373 -83.299,17.988 -83.129,17.693 -82.072,18.303 -81.991,18.281 -81.871,18.074 -80.918,18.624 -80.803,18.424 -79.85,18.974 -79.705,18.723 -75.652,21.063 -66.372,4.99 -68.472,9.765 -69.13,9.765 ; -83.575,14.226 ccw(c-82.222,15.007) -81.441,13.654 ; -83.54,14.165 -85.22,17.075 -84.467,17.51 -84.372,17.345 -82.138,13.497 ; -81.44,13.657 -80.959,13.935 cw(c-80.125,12.49) -78.679,13.324 ; -78.664,13.32 -72.924,3.378 -71.52,2.865 ; -75.999,20.863 -73.049,15.754 -70.225,8.343 cw(c-70.844,8.128) -70.588,7.525 ; -75.622,21.011 -74.612,20.982 -73.507,19.068 -73.92,18.183 ; -74.124,5.456 -70.469,7.566 ; -71.52,3.669 -72.028,4.177 -71.52,4.685 ; -70.32,-2.935 -70.32,0.095 -69.07,0.095 -69.07,-2.935 ; -66.4,4.935 -65.76,8.785 -64,8.785 ; -65.04,8.815 -65.04,11.535 -64,11.535 -64,8.785 ; -64,3.565 -8.115,3.565 -8.115,9.565 -2.5,9.565 ; -64,4.865 -71.52,4.865 -71.52,-2.935 -64,-2.935 ; 2.5,9.565 8.115,9.565 8.115,3.565 64,3.565 ; 64,4.865 71.52,4.865 71.52,-2.935 64,-2.935 ; 65.04,8.815 65.04,11.535 64,11.535 64,8.785 ; 66.4,4.935 65.76,8.785 64,8.785 ; 69.07,-2.935 69.07,0.095 70.32,0.095 70.32,-2.935 ; 69.13,9.765 68.472,9.765 66.372,4.99 75.652,21.063 79.705,18.723 79.85,18.974 80.803,18.424 80.918,18.624 81.871,18.074 81.991,18.281 82.072,18.303 83.129,17.693 83.299,17.988 84.364,17.373 ; 70.469,7.566 74.124,5.456 ; 70.588,7.525 cw(c70.844,8.128) 70.225,8.343 73.049,15.754 75.999,20.863 ; 71.52,2.865 72.924,3.378 78.664,13.32 ; 71.52,3.669 72.028,4.177 71.52,4.685 ; 73.92,18.183 73.507,19.068 74.612,20.982 75.622,21.011 ; 78.679,13.324 cw(c80.125,12.49) 80.959,13.935 81.44,13.657 ; 81.441,13.654 ccw(c82.222,15.007) 83.575,14.226 ; 82.138,13.497 84.372,17.345 84.467,17.51 85.22,17.075 83.54,14.165 ; -64,-2.935 -64,8.785 ; -64,-2.935 -64,-9.435 64,-9.435 64,-2.935 ; 64,-2.935 64,8.785
  text "40" at -4.425,-11.515 h1.5
  text "1" at -58.035,-11.515 h1.5
  text "85" at -59.035,0.655 h1.5
  text "10" at -47.605,-11.515 h1.5
  text "93" at -48.875,0.655 h1.5
  text "95" at -41.255,0.655 h1.5
  text "123" at -6.445,0.655 h1.5
  text "125" at 1.175,0.655 h1.5
  text "42" at 3.195,-11.515 h1.5
  text "84" at 56.535,-11.515 h1.5
  text "168" at 55.785,0.655 h1.5
  text "12" at -39.985,-11.515 h1.5

## 2-390175-5 [mm] "Connector; DIMM II; 168 Position; Right Angle"
height 10.54
pads (171):
  rect 1.4x1.4 hole 0.81: 1(-57.785,-5.645)
  round 1.4 hole 0.81: 2(-56.515,-7.545) 3(-55.245,-5.645) 4(-53.975,-7.545) 5(-52.705,-5.645) 6(-51.435,-7.545) 7(-50.165,-5.645) 8(-48.895,-7.545) 9(-47.625,-5.645) 10(-46.355,-7.545) 11(-40.005,-5.645) 12(-38.735,-7.545) 13(-37.465,-5.645) 14(-36.195,-7.545) 15(-34.925,-5.645) 16(-33.655,-7.545) 17(-32.385,-5.645) 18(-31.115,-7.545) 19(-29.845,-5.645) 20(-28.575,-7.545) 21(-27.305,-5.645) 22(-26.035,-7.545) 23(-24.765,-5.645) 24(-23.495,-7.545) 25(-22.225,-5.645) 26(-20.955,-7.545) 27(-19.685,-5.645) 28(-18.415,-7.545) 29(-17.145,-5.645) 30(-15.875,-7.545) 31(-14.605,-5.645) 32(-13.335,-7.545) 33(-12.065,-5.645) 34(-10.795,-7.545) 35(-9.525,-5.645) 36(-8.255,-7.545) 37(-6.985,-5.645) 38(-5.715,-7.545) 39(-4.445,-5.645) 40(-3.175,-7.545) 41(3.175,-5.645) 42(4.445,-7.545) 43(5.715,-5.645) 44(6.985,-7.545) 45(8.255,-5.645) 46(9.525,-7.545) 47(10.795,-5.645) 48(12.065,-7.545) 49(13.335,-5.645) 50(14.605,-7.545) 51(15.875,-5.645) 52(17.145,-7.545) 53(18.415,-5.645) 54(19.685,-7.545) 55(20.955,-5.645) 56(22.225,-7.545) 57(23.495,-5.645) 58(24.765,-7.545) 59(26.035,-5.645) 60(27.305,-7.545) 61(28.575,-5.645) 62(29.845,-7.545) 63(31.115,-5.645) 64(32.385,-7.545) 65(33.655,-5.645) 66(34.925,-7.545) 67(36.195,-5.645) 68(37.465,-7.545) 69(38.735,-5.645) 70(40.005,-7.545) 71(41.275,-5.645) 72(42.545,-7.545) 73(43.815,-5.645) 74(45.085,-7.545) 75(46.355,-5.645) 76(47.625,-7.545) 77(48.895,-5.645) 78(50.165,-7.545) 79(51.435,-5.645) 80(52.705,-7.545) 81(53.975,-5.645) 82(55.245,-7.545) 83(56.515,-5.645) 84(57.785,-7.545) 85(-57.785,-1.845) 86(-56.515,-3.745) 87(-55.245,-1.845) 88(-53.975,-3.745) 89(-52.705,-1.845) 90(-51.435,-3.745) 91(-50.165,-1.845) 92(-48.895,-3.745) 93(-47.625,-1.845) 94(-46.355,-3.745) 95(-40.005,-1.845) 96(-38.735,-3.745) 97(-37.465,-1.845) 98(-36.195,-3.745) 99(-34.925,-1.845) 100(-33.655,-3.745) 101(-32.385,-1.845) 102(-31.115,-3.745) 103(-29.845,-1.845) 104(-28.575,-3.745) 105(-27.305,-1.845) 106(-26.035,-3.745) 107(-24.765,-1.845) 108(-23.495,-3.745) 109(-22.225,-1.845) 110(-20.955,-3.745) 111(-19.685,-1.845) 112(-18.415,-3.745) 113(-17.145,-1.845) 114(-15.875,-3.745) 115(-14.605,-1.845) 116(-13.335,-3.745) 117(-12.065,-1.845) 118(-10.795,-3.745) 119(-9.525,-1.845) 120(-8.255,-3.745) 121(-6.985,-1.845) 122(-5.715,-3.745) 123(-4.445,-1.845) 124(-3.175,-3.745) 125(3.175,-1.845) 126(4.445,-3.745) 127(5.715,-1.845) 128(6.985,-3.745) 129(8.255,-1.845) 130(9.525,-3.745) 131(10.795,-1.845) 132(12.065,-3.745) 133(13.335,-1.845) 134(14.605,-3.745) 135(15.875,-1.845) 136(17.145,-3.745) 137(18.415,-1.845) 138(19.685,-3.745) 139(20.955,-1.845) 140(22.225,-3.745) 141(23.495,-1.845) 142(24.765,-3.745) 143(26.035,-1.845) 144(27.305,-3.745) 145(28.575,-1.845) 146(29.845,-3.745) 147(31.115,-1.845) 148(32.385,-3.745) 149(33.655,-1.845) 150(34.925,-3.745) 151(36.195,-1.845) 152(37.465,-3.745) 153(38.735,-1.845) 154(40.005,-3.745) 155(41.275,-1.845) 156(42.545,-3.745) 157(43.815,-1.845) 158(45.085,-3.745) 159(46.355,-1.845) 160(47.625,-3.745) 161(48.895,-1.845) 162(50.165,-3.745) 163(51.435,-1.845) 164(52.705,-3.745) 165(53.975,-1.845) 166(55.245,-3.745) 167(56.515,-1.845) 168(57.785,-3.745)
  round 2.778 hole 1.778: 169(60.96,-0.455) 171(-60.96,-0.455)
  round 3.94 hole 2.44: 170(0,7.545)
Top Overlay:
  lines w0.25: -84.364,17.373 -83.299,17.988 -83.129,17.693 -82.072,18.303 -81.991,18.281 -81.871,18.074 -80.918,18.624 -80.803,18.424 -79.85,18.974 -79.705,18.723 -75.652,21.063 -66.372,4.99 -68.472,9.765 -69.13,9.765 ; -83.575,14.226 ccw(c-82.222,15.007) -81.441,13.654 ; -83.54,14.165 -85.22,17.075 -84.467,17.51 -84.372,17.345 -82.138,13.497 ; -81.44,13.657 -80.959,13.935 cw(c-80.125,12.49) -78.679,13.324 ; -78.664,13.32 -72.924,3.378 -71.52,2.865 ; -75.999,20.863 -73.049,15.754 -70.225,8.343 cw(c-70.844,8.128) -70.588,7.525 ; -75.622,21.011 -74.612,20.982 -73.507,19.068 -73.92,18.183 ; -74.124,5.456 -70.469,7.566 ; -71.52,3.669 -72.028,4.177 -71.52,4.685 ; -70.32,-2.935 -70.32,0.095 -69.07,0.095 -69.07,-2.935 ; -66.4,4.935 -65.76,8.785 -64,8.785 ; -65.04,8.815 -65.04,11.535 -64,11.535 -64,8.785 ; -64,3.565 -8.115,3.565 -8.115,9.565 -2.5,9.565 ; -64,4.865 -71.52,4.865 -71.52,-2.935 -64,-2.935 ; 2.5,9.565 8.115,9.565 8.115,3.565 64,3.565 ; 64,4.865 71.52,4.865 71.52,-2.935 64,-2.935 ; 65.04,8.815 65.04,11.535 64,11.535 64,8.785 ; 66.4,4.935 65.76,8.785 64,8.785 ; 69.07,-2.935 69.07,0.095 70.32,0.095 70.32,-2.935 ; 69.13,9.765 68.472,9.765 66.372,4.99 75.652,21.063 79.705,18.723 79.85,18.974 80.803,18.424 80.918,18.624 81.871,18.074 81.991,18.281 82.072,18.303 83.129,17.693 83.299,17.988 84.364,17.373 ; 70.469,7.566 74.124,5.456 ; 70.588,7.525 cw(c70.844,8.128) 70.225,8.343 73.049,15.754 75.999,20.863 ; 71.52,2.865 72.924,3.378 78.664,13.32 ; 71.52,3.669 72.028,4.177 71.52,4.685 ; 73.92,18.183 73.507,19.068 74.612,20.982 75.622,21.011 ; 78.679,13.324 cw(c80.125,12.49) 80.959,13.935 81.44,13.657 ; 81.441,13.654 ccw(c82.222,15.007) 83.575,14.226 ; 82.138,13.497 84.372,17.345 84.467,17.51 85.22,17.075 83.54,14.165 ; -64,-2.935 -64,8.785 ; -64,-2.935 -64,-9.435 64,-9.435 64,-2.935 ; 64,-2.935 64,8.785
  text "40" at -4.425,-11.515 h1.5
  text "1" at -58.035,-11.515 h1.5
  text "85" at -59.035,0.655 h1.5
  text "10" at -47.605,-11.515 h1.5
  text "93" at -48.875,0.655 h1.5
  text "95" at -41.255,0.655 h1.5
  text "123" at -6.445,0.655 h1.5
  text "125" at 1.175,0.655 h1.5
  text "42" at 3.195,-11.515 h1.5
  text "84" at 56.535,-11.515 h1.5
  text "168" at 55.785,0.655 h1.5
  text "12" at -39.985,-11.515 h1.5

## 2-390175-6 [mm] "Connector; DIMM II; 168 Position; Right Angle"
height 10.54
pads (171):
  rect 1.4x1.4 hole 0.81: 1(-57.785,-5.645)
  round 1.4 hole 0.81: 2(-56.515,-7.545) 3(-55.245,-5.645) 4(-53.975,-7.545) 5(-52.705,-5.645) 6(-51.435,-7.545) 7(-50.165,-5.645) 8(-48.895,-7.545) 9(-47.625,-5.645) 10(-46.355,-7.545) 11(-40.005,-5.645) 12(-38.735,-7.545) 13(-37.465,-5.645) 14(-36.195,-7.545) 15(-34.925,-5.645) 16(-33.655,-7.545) 17(-32.385,-5.645) 18(-31.115,-7.545) 19(-29.845,-5.645) 20(-28.575,-7.545) 21(-27.305,-5.645) 22(-26.035,-7.545) 23(-24.765,-5.645) 24(-23.495,-7.545) 25(-22.225,-5.645) 26(-20.955,-7.545) 27(-19.685,-5.645) 28(-18.415,-7.545) 29(-17.145,-5.645) 30(-15.875,-7.545) 31(-14.605,-5.645) 32(-13.335,-7.545) 33(-12.065,-5.645) 34(-10.795,-7.545) 35(-9.525,-5.645) 36(-8.255,-7.545) 37(-6.985,-5.645) 38(-5.715,-7.545) 39(-4.445,-5.645) 40(-3.175,-7.545) 41(3.175,-5.645) 42(4.445,-7.545) 43(5.715,-5.645) 44(6.985,-7.545) 45(8.255,-5.645) 46(9.525,-7.545) 47(10.795,-5.645) 48(12.065,-7.545) 49(13.335,-5.645) 50(14.605,-7.545) 51(15.875,-5.645) 52(17.145,-7.545) 53(18.415,-5.645) 54(19.685,-7.545) 55(20.955,-5.645) 56(22.225,-7.545) 57(23.495,-5.645) 58(24.765,-7.545) 59(26.035,-5.645) 60(27.305,-7.545) 61(28.575,-5.645) 62(29.845,-7.545) 63(31.115,-5.645) 64(32.385,-7.545) 65(33.655,-5.645) 66(34.925,-7.545) 67(36.195,-5.645) 68(37.465,-7.545) 69(38.735,-5.645) 70(40.005,-7.545) 71(41.275,-5.645) 72(42.545,-7.545) 73(43.815,-5.645) 74(45.085,-7.545) 75(46.355,-5.645) 76(47.625,-7.545) 77(48.895,-5.645) 78(50.165,-7.545) 79(51.435,-5.645) 80(52.705,-7.545) 81(53.975,-5.645) 82(55.245,-7.545) 83(56.515,-5.645) 84(57.785,-7.545) 85(-57.785,-1.845) 86(-56.515,-3.745) 87(-55.245,-1.845) 88(-53.975,-3.745) 89(-52.705,-1.845) 90(-51.435,-3.745) 91(-50.165,-1.845) 92(-48.895,-3.745) 93(-47.625,-1.845) 94(-46.355,-3.745) 95(-40.005,-1.845) 96(-38.735,-3.745) 97(-37.465,-1.845) 98(-36.195,-3.745) 99(-34.925,-1.845) 100(-33.655,-3.745) 101(-32.385,-1.845) 102(-31.115,-3.745) 103(-29.845,-1.845) 104(-28.575,-3.745) 105(-27.305,-1.845) 106(-26.035,-3.745) 107(-24.765,-1.845) 108(-23.495,-3.745) 109(-22.225,-1.845) 110(-20.955,-3.745) 111(-19.685,-1.845) 112(-18.415,-3.745) 113(-17.145,-1.845) 114(-15.875,-3.745) 115(-14.605,-1.845) 116(-13.335,-3.745) 117(-12.065,-1.845) 118(-10.795,-3.745) 119(-9.525,-1.845) 120(-8.255,-3.745) 121(-6.985,-1.845) 122(-5.715,-3.745) 123(-4.445,-1.845) 124(-3.175,-3.745) 125(3.175,-1.845) 126(4.445,-3.745) 127(5.715,-1.845) 128(6.985,-3.745) 129(8.255,-1.845) 130(9.525,-3.745) 131(10.795,-1.845) 132(12.065,-3.745) 133(13.335,-1.845) 134(14.605,-3.745) 135(15.875,-1.845) 136(17.145,-3.745) 137(18.415,-1.845) 138(19.685,-3.745) 139(20.955,-1.845) 140(22.225,-3.745) 141(23.495,-1.845) 142(24.765,-3.745) 143(26.035,-1.845) 144(27.305,-3.745) 145(28.575,-1.845) 146(29.845,-3.745) 147(31.115,-1.845) 148(32.385,-3.745) 149(33.655,-1.845) 150(34.925,-3.745) 151(36.195,-1.845) 152(37.465,-3.745) 153(38.735,-1.845) 154(40.005,-3.745) 155(41.275,-1.845) 156(42.545,-3.745) 157(43.815,-1.845) 158(45.085,-3.745) 159(46.355,-1.845) 160(47.625,-3.745) 161(48.895,-1.845) 162(50.165,-3.745) 163(51.435,-1.845) 164(52.705,-3.745) 165(53.975,-1.845) 166(55.245,-3.745) 167(56.515,-1.845) 168(57.785,-3.745)
  round 2.778 hole 1.778: 169(60.96,-0.455) 171(-60.96,-0.455)
  round 3.94 hole 2.44: 170(0,7.545)
Top Overlay:
  lines w0.25: -84.364,17.373 -83.299,17.988 -83.129,17.693 -82.072,18.303 -81.991,18.281 -81.871,18.074 -80.918,18.624 -80.803,18.424 -79.85,18.974 -79.705,18.723 -75.652,21.063 -66.372,4.99 -68.472,9.765 -69.13,9.765 ; -83.575,14.226 ccw(c-82.222,15.007) -81.441,13.654 ; -83.54,14.165 -85.22,17.075 -84.467,17.51 -84.372,17.345 -82.138,13.497 ; -81.44,13.657 -80.959,13.935 cw(c-80.125,12.49) -78.679,13.324 ; -78.664,13.32 -72.924,3.378 -71.52,2.865 ; -75.999,20.863 -73.049,15.754 -70.225,8.343 cw(c-70.844,8.128) -70.588,7.525 ; -75.622,21.011 -74.612,20.982 -73.507,19.068 -73.92,18.183 ; -74.124,5.456 -70.469,7.566 ; -71.52,3.669 -72.028,4.177 -71.52,4.685 ; -70.32,-2.935 -70.32,0.095 -69.07,0.095 -69.07,-2.935 ; -66.4,4.935 -65.76,8.785 -64,8.785 ; -65.04,8.815 -65.04,11.535 -64,11.535 -64,8.785 ; -64,3.565 -8.115,3.565 -8.115,9.565 -2.5,9.565 ; -64,4.865 -71.52,4.865 -71.52,-2.935 -64,-2.935 ; 2.5,9.565 8.115,9.565 8.115,3.565 64,3.565 ; 64,4.865 71.52,4.865 71.52,-2.935 64,-2.935 ; 65.04,8.815 65.04,11.535 64,11.535 64,8.785 ; 66.4,4.935 65.76,8.785 64,8.785 ; 69.07,-2.935 69.07,0.095 70.32,0.095 70.32,-2.935 ; 69.13,9.765 68.472,9.765 66.372,4.99 75.652,21.063 79.705,18.723 79.85,18.974 80.803,18.424 80.918,18.624 81.871,18.074 81.991,18.281 82.072,18.303 83.129,17.693 83.299,17.988 84.364,17.373 ; 70.469,7.566 74.124,5.456 ; 70.588,7.525 cw(c70.844,8.128) 70.225,8.343 73.049,15.754 75.999,20.863 ; 71.52,2.865 72.924,3.378 78.664,13.32 ; 71.52,3.669 72.028,4.177 71.52,4.685 ; 73.92,18.183 73.507,19.068 74.612,20.982 75.622,21.011 ; 78.679,13.324 cw(c80.125,12.49) 80.959,13.935 81.44,13.657 ; 81.441,13.654 ccw(c82.222,15.007) 83.575,14.226 ; 82.138,13.497 84.372,17.345 84.467,17.51 85.22,17.075 83.54,14.165 ; -64,-2.935 -64,8.785 ; -64,-2.935 -64,-9.435 64,-9.435 64,-2.935 ; 64,-2.935 64,8.785
  text "40" at -4.425,-11.515 h1.5
  text "1" at -58.035,-11.515 h1.5
  text "85" at -59.035,0.655 h1.5
  text "10" at -47.605,-11.515 h1.5
  text "93" at -48.875,0.655 h1.5
  text "95" at -41.255,0.655 h1.5
  text "123" at -6.445,0.655 h1.5
  text "125" at 1.175,0.655 h1.5
  text "42" at 3.195,-11.515 h1.5
  text "84" at 56.535,-11.515 h1.5
  text "168" at 55.785,0.655 h1.5
  text "12" at -39.985,-11.515 h1.5